# EAGLE library part JESPER_SH-1 (library diode-20CJQ030)
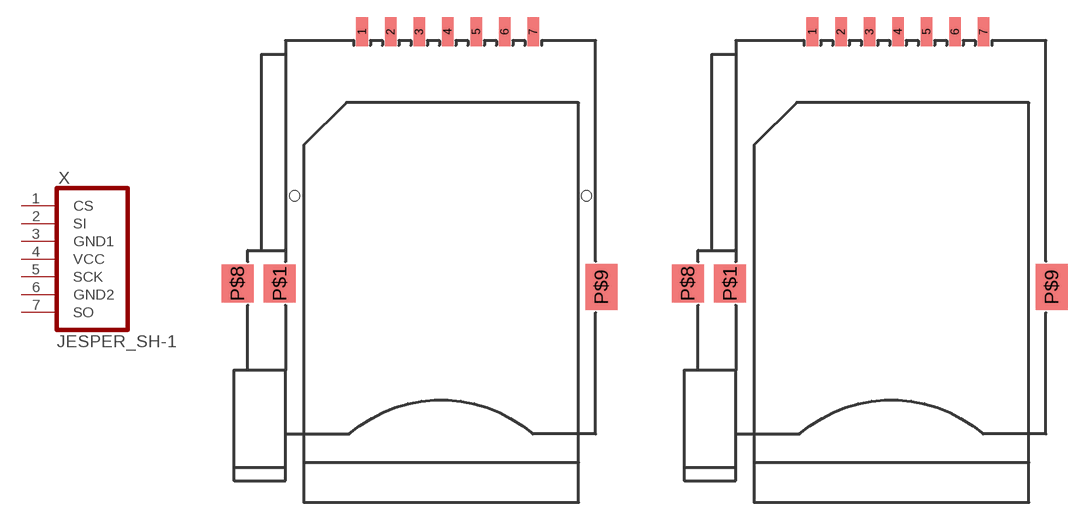
[diagram p18: symbol with the pads of JESPER_SH-1; footprints JESPER_SH-1, JESPER_SH-1_2]

Designator prefix X

## JESPER_SH-1  [JESPER_SH-1]
1  CS
2  SI
3  GND1  pwr
4  VCC  pwr
5  SCK
6  GND2  pwr
7  SO

## JESPER_SH-1A  [JESPER_SH-1_2]
Pads as for JESPER_SH-1

## Footprint JESPER_SH-1 (pad centres in mm)
smd 1.016 x 2.54: 1 -6.875,22.096; 2 -4.375,22.096; 3 -1.875,22.096; 4 0.625,22.096; 5 3.125,22.096; 6 5.625,22.096; 7 8.125,22.096
smd 2.8 x 3.3: P$1 -14.1,0; P$8 -17.8,0
smd 2.8 x 4: P$9 14.1,-0.3
hole 0.9 at -12.8,7.7
hole 0.9 at 12.8,7.7

## Footprint JESPER_SH-1_2 (pad centres in mm)
smd 1.016 x 2.54: 1 -6.875,20.826; 2 -4.375,20.826; 3 -1.875,20.826; 4 0.625,20.826; 5 3.125,20.826; 6 5.625,20.826; 7 8.125,20.826
smd 2.8 x 3.3: P$1 -14.1,-1.27; P$8 -17.8,-1.27
smd 2.8 x 4: P$9 14.1,-1.57